# Altium schematic symbol library Schlib_EFM1_Touch.SchLib: 1 symbol
Pins are listed as number, name and electrical type; pins without a type are passive.

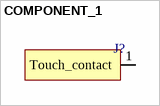
[diagram p0: symbol COMPONENT_1]

## COMPONENT_1
designator J?  (value not drawn)  (no BOM)
footprint PCBComponent_1
pins: 1 Touch_contact